# EAGLE library part MAX3088 (library IC_Interface)
Fail-Safe, High-Speed (10Mbps), Slew-Rate-Limited RS-485/RS-422 Transceivers Datasheet <https://www.mouser.in/datasheet/2/256/MAX3080-MAX3089-1292664.pdf>
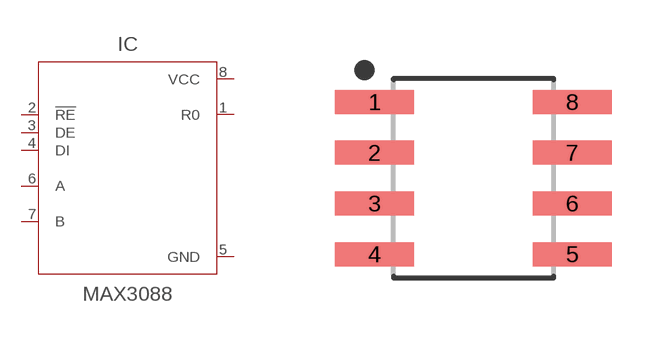
[diagram p13: symbol with the pads of SOIC127P600X175-8N; footprint SOIC127P600X175-8N]

Designator prefix IC

## MAX3088_SOIC (CATEGORY: IC_Interface; MANUFACTURER: Maxim integrated; MPN: MAX3088ESA; OPERATING_TEMP: -40 to +85 °C; PART_STATUS: Active; ROHS_COMPLIANT: RoHS3 Compliant; SUB-CATEGORY: Transceiver; THERMALLOSS: 0.47W; VALUE: MAX3088ESA)  [SOIC127P600X175-8N]
1  R0  out
2  !RE  in
3  DE  in
4  DI  in
5  GND  pwr
6  A
7  B
8  VCC  pwr

## Footprint SOIC127P600X175-8N (pad centres in mm)
8-SOIC, 1.27 mm pitch, 6.00 mm span, 4.90 X 3.90 X 1.75 mm body 8-pin SOIC package with 1.27 mm pitch, 6.00 mm span with body size 4.90 X 3.90 X 1.75 mm
smd 1.968 x 0.599: 1 -2.473,1.905; 2 -2.473,0.635; 3 -2.473,-0.635; 4 -2.473,-1.905; 5 2.473,-1.905; 6 2.473,-0.635; 7 2.473,0.635; 8 2.473,1.905